# Altium schematic symbol library SHT21.SchLib: 1 symbol
Pins are listed as number, name and electrical type; pins without a type are passive.

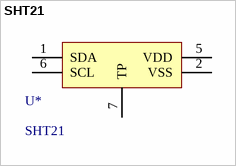
[diagram p0: symbol SHT21]

## SHT21
designator U*
SHT21 H/T sensor
footprint SON100P300X120_HS-7N (SON, 6-Leads, Body 3,00x3,00mm, Pitch 1,00mm, Thermal Pad 2,40x1,50mm, IPC Medium Density)
pins: 1 SDA, 2 VSS, 5 VDD, 6 SCL, 7 TP